# Altium footprint library accessPoint.PcbLib: 19 footprints (part 2 of 2)
Each footprint in its own frame and in the unit in brackets; x right, y up, seen from the top. Pads: shape width x height; smd on the part's side, far side on the other; paste and mask are expansions set on the pad; w line width, h text height; cw(c..) or ccw(c..) is an arc to the next point about the centre after c.
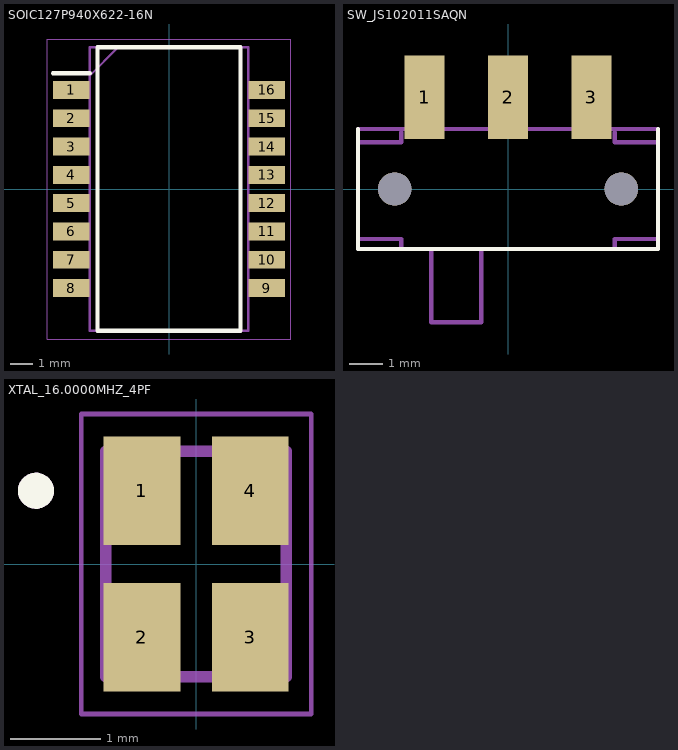
[diagram p1: the footprints below, top view; thin cyan lines are the x and y axes]

## SOIC127P940X622-16N [mm]
pads (16):
  rect 1.645x0.8 smd: 1(-4.378,4.445) 2(-4.378,3.175) 3(-4.378,1.905) 4(-4.378,0.635) 5(-4.378,-0.635) 6(-4.378,-1.905) 7(-4.378,-3.175) 8(-4.378,-4.445) 9(4.378,-4.445) 10(4.378,-3.175) 11(4.378,-1.905) 12(4.378,-0.635) 13(4.378,0.635) 14(4.378,1.905) 15(4.378,3.175) 16(4.378,4.445)
Top Overlay:
  lines w0.2: -5.2,5.195 -3.555,5.195 ; -3.205,-6.35 3.205,-6.35 3.205,6.35 -3.205,6.35 -3.205,-6.35
Mechanical 13:
  lines w0.1: -3.555,5.08 -2.285,6.35 ; -3.555,-6.35 3.555,-6.35 3.555,6.35 -3.555,6.35 -3.555,-6.35
Mechanical 15:
  lines w0.05: -5.45,-6.725 5.45,-6.725 5.45,6.725 -5.45,6.725 -5.45,-6.725
3D body "H1102NLT.stp": height 5.94, standoff -0.03, extent -4.7,-6.35 4.7,6.35

## SW_JS102011SAQN [mm]
pads (5):
  rect 1.2x2.5 smd: 1(-2.5,2.75) 2(0,2.75) 3(2.5,2.75)
  round 1 hole 1 unplated: ""(-3.4,0) ""(3.4,0)
Top Overlay:
  lines w0.127: -4.5,1.8 -4.5,-1.8 4.5,-1.8 4.5,1.8
Mechanical 13:
  region: 2.8,1.803 2.204,1.803 2.204,3.7 2.8,3.7
  region: 0.3,1.8 -0.3,1.8 -0.3,3.7 0.3,3.7
  region: -2.2,1.801 -2.801,1.801 -2.801,3.7 -2.2,3.7
  region: -2.2,1.801 -2.801,1.801 -2.801,3.7 -2.2,3.7
  lines w0.127: -4.5,-1.5 -3.2,-1.5 -3.2,-1.8 ; -4.5,1.4 -3.2,1.4 -3.2,1.7 ; -4.5,1.8 4.5,1.8 ; -2.3,-1.8 -2.3,-4 -0.8,-4 -0.8,-1.8 ; 3.2,-1.8 3.2,-1.5 4.5,-1.5 ; 3.2,1.7 3.2,1.4 4.5,1.4
3D body "JS102011SAQN--3DModel-Eagle-1.STEP": height 3.23, standoff -1.07, extent -4.5,-3.496 4.5,4.004

## XTAL_16.0000MHZ_4PF [mm]
pads (4):
  rect 0.85x1.2 smd: 1(-0.6,0.812) 2(-0.6,-0.812) 3(0.6,-0.812) 4(0.6,0.812)
Top Overlay:
  circle w0.2: c-1.775,0.812 r0.1
Mechanical 13:
  circle w0.2: c-1.775,0.812 r0.1
  lines w0.127: -1,-1.25 -1,1.25 1,1.25 1,-1.25 -1,-1.25
Mechanical 15:
  lines w0.05: -1.275,-1.663 -1.275,1.663 1.275,1.663 1.275,-1.663 -1.275,-1.663
3D body "ABM10W-24.5760MHZ-7-B1U-T3.stp": height 0.7, standoff 0, extent -1,-1.328 1,1.328